# EAGLE library part HEADER-1X9 (library uBraids_SE_Library)
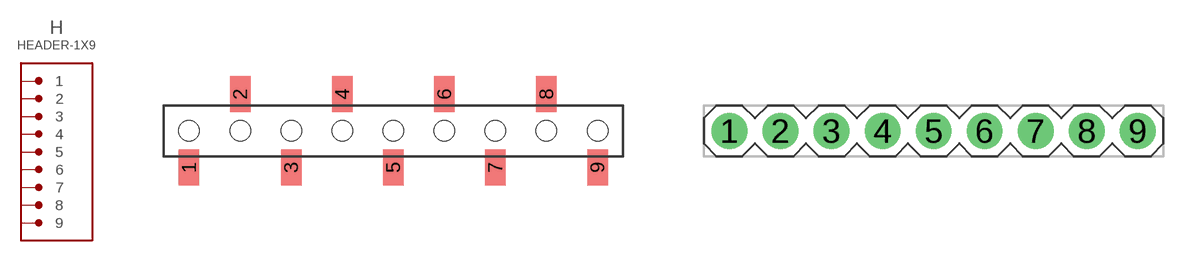
[diagram p7: symbol with the pads of SSM-109-S-SV-BE; footprints SSM-109-S-SV-BE, PTH-0.1-1X9]

Designator prefix H

## HEADER-1X9-SSM  [SSM-109-S-SV-BE]
1  1
2  2
3  3
4  4
5  5
6  6
7  7
8  8
9  9

## HEADER-1X9-PTH  [PTH-0.1-1X9]
Pads as for SSM-109-S-SV-BE

## Footprint SSM-109-S-SV-BE (pad centres in mm)
smd 1.02 x 1.805: 1 0,-1.827; 2 2.54,1.827; 3 5.08,-1.827; 4 7.62,1.827; 5 10.16,-1.827; 6 12.7,1.827; 7 15.24,-1.827; 8 17.78,1.827; 9 20.32,-1.827
hole 1.02 at 0,0
hole 1.02 at 2.54,0
hole 1.02 at 5.08,0
hole 1.02 at 7.62,0
hole 1.02 at 10.16,0
hole 1.02 at 12.7,0
hole 1.02 at 15.24,0
hole 1.02 at 17.78,0
hole 1.02 at 20.32,0

## Footprint PTH-0.1-1X9 (pad centres in mm)
drill 1.016 pad 1.778: 1 -10.16,0; 2 -7.62,0; 3 -5.08,0; 4 -2.54,0; 5 0,0; 6 2.54,0; 7 5.08,0; 8 7.62,0; 9 10.16,0